# Altium footprint library SMD.PcbLib: 9 footprints
Each footprint in its own frame and in the unit in brackets; x right, y up, seen from the top. Pads: shape width x height; smd on the part's side, far side on the other; paste and mask are expansions set on the pad; w line width, h text height; cw(c..) or ccw(c..) is an arc to the next point about the centre after c.
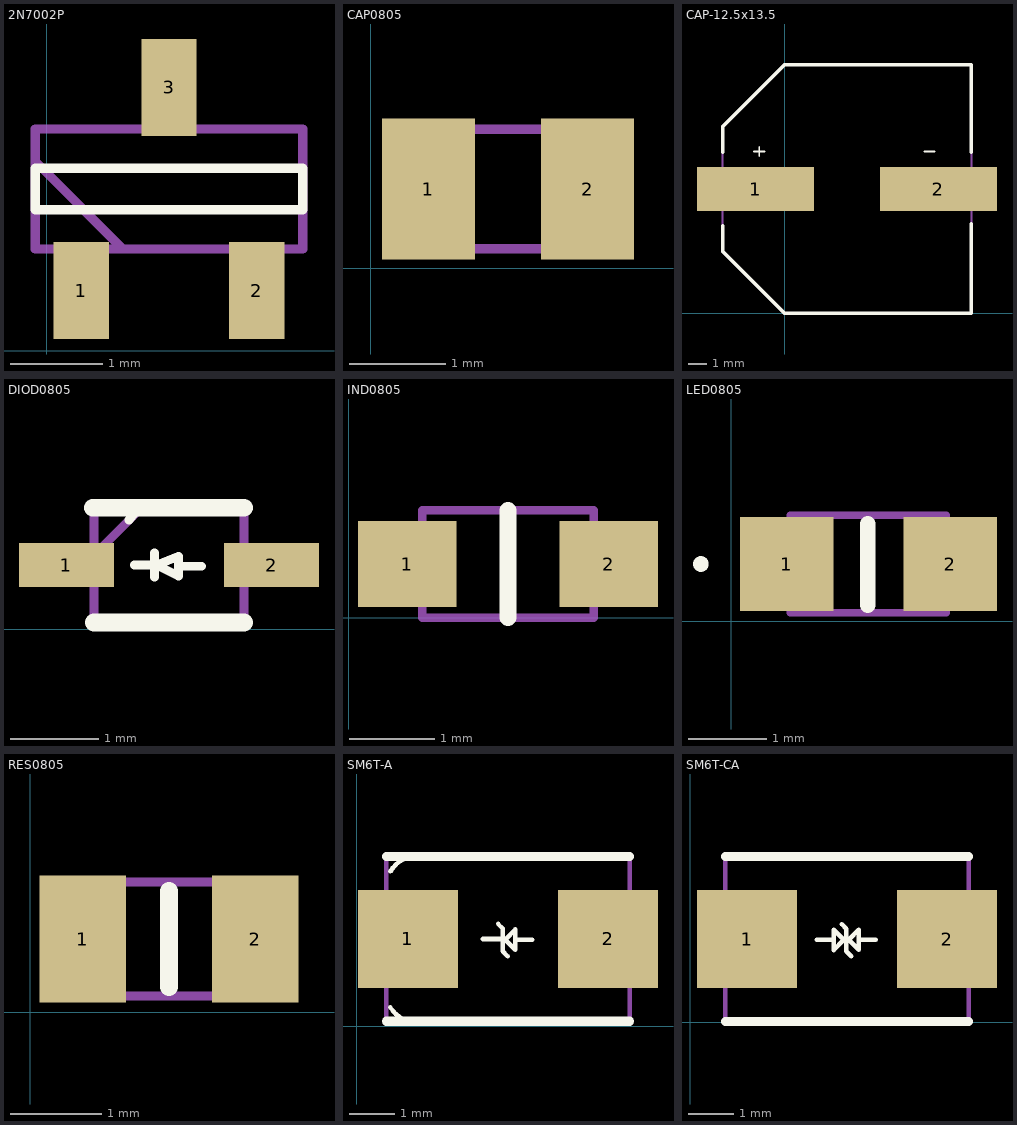
[diagram p0: the footprints below, top view; thin cyan lines are the x and y axes]

## 2N7002P [mm]
pads (3):
  rect 0.6x1.05 smd: 1(0.375,0.65) 2(2.275,0.65) 3(1.325,2.85)
Top Overlay:
  lines w0.1: -0.125,1.525 -0.125,1.975 2.775,1.975 2.775,1.525 2.05,1.525 0.6,1.525 -0.125,1.525
Mechanical 15:
  lines w0.1: -0.125,2.05 0.825,1.1 ; -0.125,1.1 -0.125,2.4 2.775,2.4 2.775,1.1 -0.125,1.1
3D body "2N7002P,235.stp": height 0.91, standoff -0.04, extent -0.125,0.599 2.775,3

## CAP0805 [mm]
pads (2):
  rect 0.97x1.47 smd: 1(0.6,0.827) 2(2.26,0.827)
Mechanical 15:
  lines w0.1: 0.43,0.202 0.43,1.452 2.43,1.452 2.43,0.202 0.43,0.202
3D body "GRM21BR71A105JA01K.stp": height 1.45, standoff 0, extent 0.425,0.2 2.425,1.45

## CAP-12.5x13.5 [mm]
pads (2):
  rect 6.4x2.4 smd: 1(-1.6,6.8) 2(8.4,6.8)
Top Overlay:
  lines w0.1: -1.688,8.858 -1.112,8.858 ; -1.4,8.612 -1.4,9.1 ; 7.623,8.858 8.2,8.858
  lines w0.2: -3.4,4.8 -3.4,3.4 0,0 10.2,0 10.2,4.9 ; -3.4,8.8 -3.4,10.2 0,13.6 10.2,13.6 10.2,8.8
Mechanical 15:
  lines w0.1: -3.4,3.4 -3.4,10.2 0,13.6 10.2,13.6 10.2,0 0,0 -3.4,3.4
3D body "UUN1E221MNQ1MS.stp": height 14.5, standoff 0, extent -4,-0.1 11,13.7

## DIOD0805 [mm]
pads (2):
  rect 1.075x0.5 smd: 1(0.726,0.725) 2(3.05,0.725)
Top Overlay:
  lines w0.1: 1.436,1.236 1.55,1.375 ; 1.497,0.725 1.747,0.725 ; 1.55,1.35 1.55,1.4 ; 1.725,0.588 1.725,0.86 ; 2.259,0.713 1.997,0.713 1.997,0.6 ; 1.747,0.725 1.997,0.825 1.997,0.6 ; 1.747,0.725 1.997,0.6
  lines w0.2: 1.025,1.375 2.738,1.375 ; 1.038,0.075 2.738,0.075
Mechanical 15:
  lines w0.1: 1.038,0.837 1.576,1.375 ; 1.038,0.075 2.738,0.075 2.738,1.375 1.038,1.375 1.038,0.075
3D body "1N4448WS-7-F.stp": height 1.06, standoff -0.05, extent 0.666,0.075 3.184,1.375

## IND0805 [mm]
pads (2):
  rect 1.15x1 smd: 1(0.68,0.629) 2(3.03,0.629)
Top Overlay:
  lines w0.2: 1.855,0.004 1.855,1.254
Mechanical 15:
  lines w0.1: 0.855,0.004 2.855,0.004 2.855,1.254 0.855,1.254 0.855,0.004
3D body "LQM21FN100N00K.stp": height 1.24, standoff -0.01, extent 0.85,0 2.85,1.25

## LED0805 [mm]
pads (2):
  rect 1.2x1.2 smd: 1(0.713,0.735) 2(2.813,0.735)
Top Overlay:
  lines w0.1: -0.437,0.735 cw(c-0.387,0.735) -0.337,0.735 cw(c-0.387,0.735) -0.437,0.735
  lines w0.2: 1.753,0.204 1.753,1.254
Mechanical 15:
  lines w0.1: 0.763,0.11 0.763,1.36 2.763,1.36 2.763,0.11 0.763,0.11
3D body "FYLS-0805UGC.stp": height 0.8, standoff 0, extent 0.775,0.1 2.775,1.35

## RES0805 [mm]
pads (2):
  rect 0.95x1.4 smd: 1(0.578,0.804) 2(2.478,0.804)
Top Overlay:
  lines w0.2: 1.528,0.279 1.528,1.329
Mechanical 15:
  lines w0.1: 0.528,0.179 0.528,1.429 2.528,1.429 2.528,0.179 0.528,0.179
3D body "RC0805FR-134K75L.stp": height 0.6, standoff 0, extent 0.525,0.175 2.525,1.425

## SM6T-A [mm]
pads (2):
  rect 2.2x2.15 smd: 1(1.126,1.927) 2(5.526,1.927)
Top Overlay:
  lines w0.1: 0.737,0.425 ccw(c1.3,0.75) 1.3,0.1 ; 0.74,3.413 cw(c1.325,3.075) 1.325,3.75 1.6,3.75 ; 2.774,1.925 3.15,1.925 ; 3.107,2.256 3.207,2.156 3.207,1.656 3.316,1.547 ; 3.487,1.912 3.863,1.912 ; 3.263,1.912 3.487,1.688 3.487,2.135 3.263,1.912
  lines w0.2: 0.651,0.115 6.001,0.115 ; 0.651,3.739 6.001,3.739
Mechanical 15:
  lines w0.1: 0.651,0.115 0.651,3.739 6.001,3.739 6.001,0.115 0.651,0.115
3D body "SM6T18AY.stp": height 2.5, standoff 0.18, extent 0.65,0.065 6,3.785

## SM6T-CA [mm]
pads (2):
  rect 2.2x2.15 smd: 1(1.251,1.827) 2(5.651,1.827)
Top Overlay:
  lines w0.1: 2.781,1.807 3.157,1.807 ; 3.332,2.156 3.432,2.056 3.432,1.556 3.541,1.447 ; 3.712,1.812 4.088,1.812 ; 3.157,1.584 3.157,2.031 3.38,1.807 3.157,1.584 ; 3.488,1.812 3.712,2.035 3.712,1.588 3.488,1.812
  lines w0.2: 0.776,0.015 6.126,0.015 ; 0.776,3.639 6.126,3.639
Mechanical 15:
  lines w0.1: 0.776,0.015 6.126,0.015 6.126,3.639 0.776,3.639 0.776,0.015
3D body "SM6T12CA.stp": height 2.62, standoff -0.03, extent 0.65,-0.15 6.25,3.8